# Altium footprint library RT_PC104-M7.PcbLib: 37 footprints (part 2 of 3)
Each footprint in its own frame and in the unit in brackets; x right, y up, seen from the top. Pads: shape width x height; smd on the part's side, far side on the other; paste and mask are expansions set on the pad; w line width, h text height; cw(c..) or ccw(c..) is an arc to the next point about the centre after c.
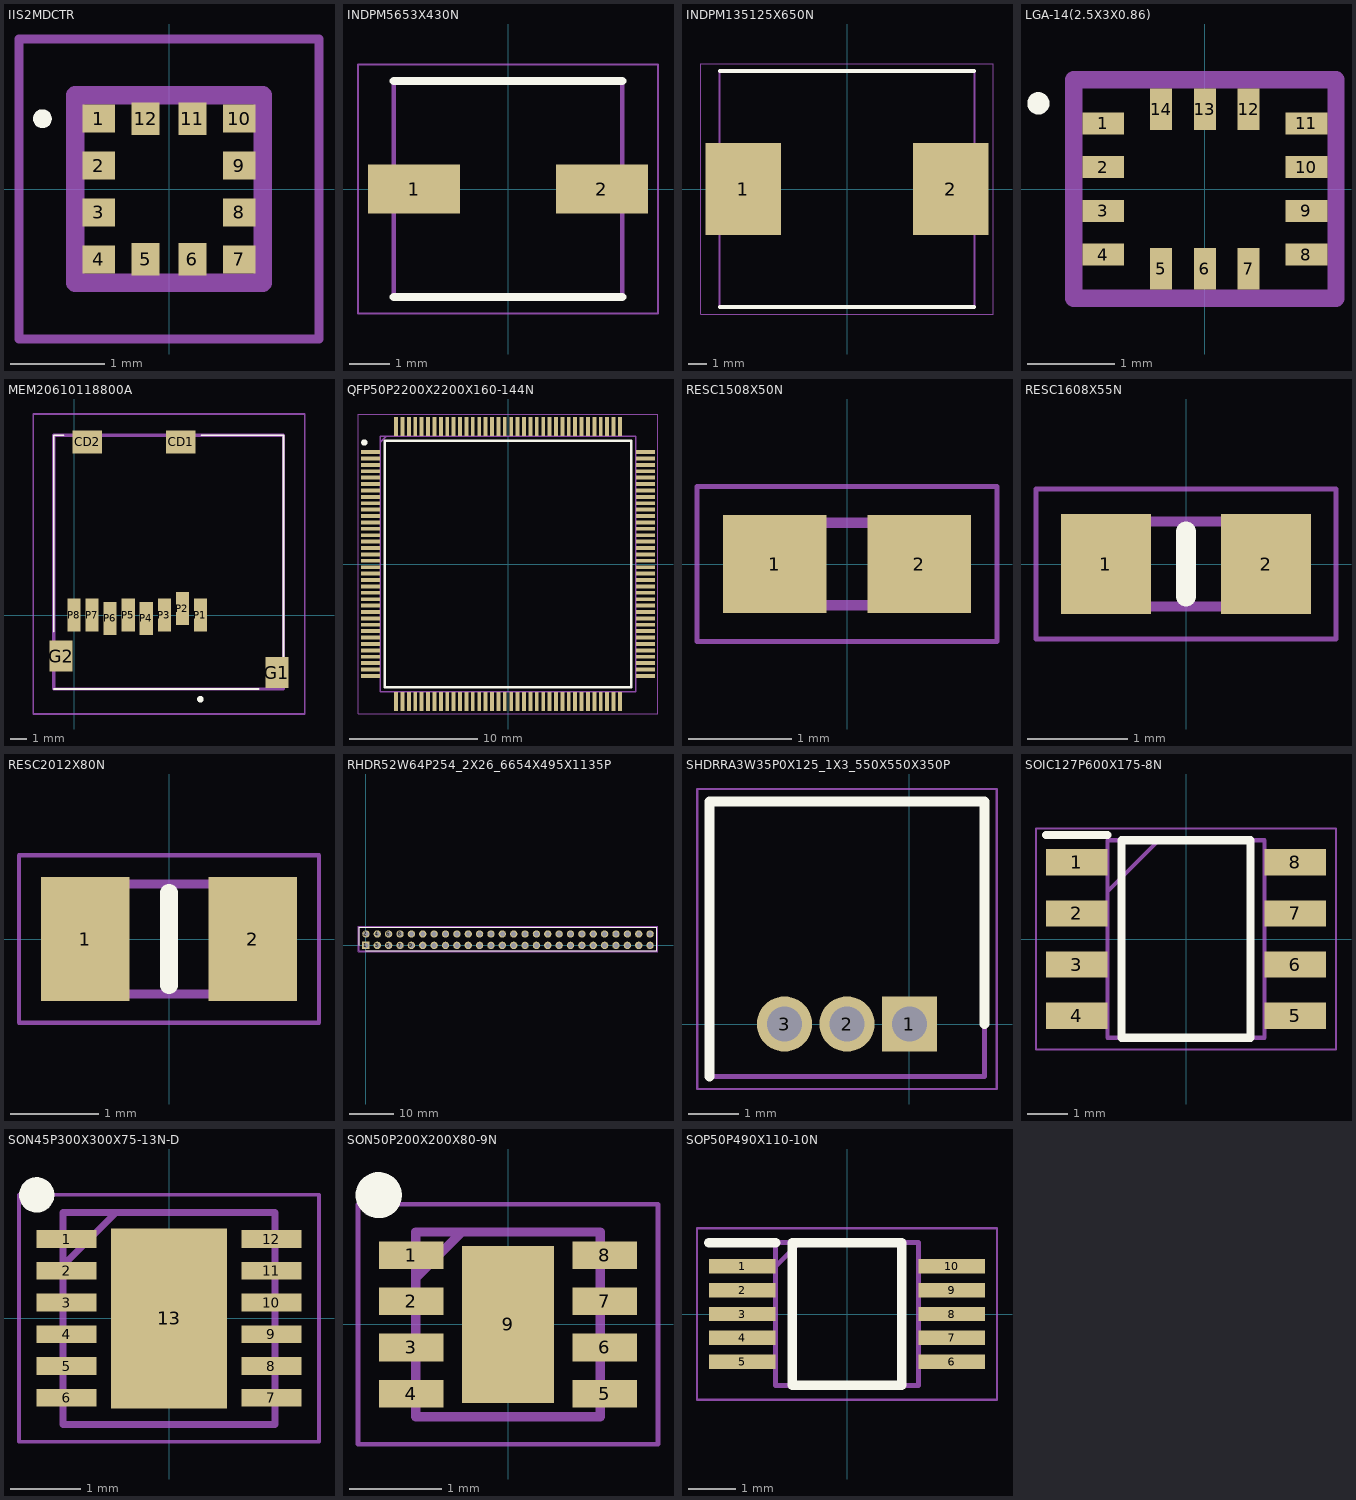
[diagram p1: the footprints below, top view; thin cyan lines are the x and y axes]

## IIS2MDCTR [mm]
pads (12):
  rect 0.35x0.3 smd: 1(-0.75,0.75) 2(-0.75,0.25) 3(-0.75,-0.25) 4(-0.75,-0.75) 7(0.75,-0.75) 8(0.75,-0.25) 9(0.75,0.25) 10(0.75,0.75)
  rect 0.3x0.35 smd: 5(-0.25,-0.75) 6(0.25,-0.75) 11(0.25,0.75) 12(-0.25,0.75)
Top Overlay:
  lines w0.1: -1.4,0.75 ccw(c-1.35,0.75) -1.3,0.75 ccw(c-1.35,0.75) -1.4,0.75
Mechanical 13:
  lines w0.2: -1,-1 -1,1 1,1 1,-1 -1,-1
Mechanical 15:
  lines w0.1: -1.6,-1.6 -1.6,1.6 1.6,1.6 1.6,-1.6 -1.6,-1.6
3D body "ISM303DACTR.stp": height 0.7, standoff 0, extent -1,-1 1,1

## INDPM5653X430N [mm]
pads (2):
  rect 2.25x1.2 smd: 1(-2.3,0) 2(2.3,0)
Top Overlay:
  lines w0.2: -2.8,-2.65 2.8,-2.65 ; -2.8,2.65 2.8,2.65
Mechanical 13:
  lines w0.1: -2.8,-2.65 -2.8,2.65 2.8,2.65 2.8,-2.65 -2.8,-2.65
Mechanical 15:
  lines w0.05: -3.675,-3.05 -3.675,3.05 3.675,3.05 3.675,-3.05 -3.675,-3.05
3D body "744316330.stp": height 4.3, standoff 0, extent -2.8,-2.65 2.8,2.65

## INDPM135125X650N [mm]
pads (2):
  rect 4x4.9 smd: 1(-5.5,0) 2(5.5,0)
Top Overlay:
  lines w0.2: -6.75,-6.25 6.75,-6.25 ; -6.75,6.25 6.75,6.25
Mechanical 13:
  lines w0.1: -6.75,-6.25 -6.75,6.25 6.75,6.25 6.75,-6.25 -6.75,-6.25
Mechanical 15:
  lines w0.05: -7.75,-6.65 -7.75,6.65 7.75,6.65 7.75,-6.65 -7.75,-6.65
3D body "SRP1265A-3R3M.stp": height 6.5, standoff 0, extent -6.75,-6.25 6.75,6.25

## LGA-14(2.5X3X0.86) [mm]
pads (14):
  rect 0.475x0.25 smd: 1(-1.162,0.75) 2(-1.162,0.25) 3(-1.162,-0.25) 4(-1.162,-0.75) 8(1.162,-0.75) 9(1.162,-0.25) 10(1.162,0.25) 11(1.162,0.75)
  rect 0.25x0.475 smd: 5(-0.5,-0.913) 6(0,-0.913) 7(0.5,-0.913) 12(0.5,0.913) 13(0,0.913) 14(-0.5,0.913)
Top Overlay:
  circle w0.2: c-1.905,0.98 r0.027
Mechanical 13:
  lines w0.2: -1.5,-1.25 -1.5,1.25 1.5,1.25 1.5,-1.25 -1.5,-1.25
3D body "ASM330LHHTR.stp": height 0.86, standoff 0, extent -1.5,-1.25 1.5,1.25

## MEM20610118800A [mm]
pads (12):
  rect 1.8x1.4 smd: CD1(6.51,10.55) CD2(0.81,10.55)
  rect 1.4x1.9 smd: G1(12.36,-3.5) G2(-0.79,-2.5)
  rect 0.8x2 smd: P1(7.7,0) P2(6.6,0.4) P3(5.5,0) P4(4.4,-0.2) P5(3.3,0) P6(2.2,-0.2) P7(1.1,0) P8(0,0)
Top Overlay:
  lines w0.1: -1.24,-4.5 11.26,-4.5 ; -1.24,-1.025 -1.24,10.95 -0.64,10.95 ; 7.76,10.95 12.76,10.95 12.76,-2.825
  lines w0.2: 7.7,-5.225 cw(c7.7,-5.125) 7.7,-5.025 cw(c7.7,-5.125) 7.7,-5.225
Mechanical 13:
  lines w0.2: -1.24,-4.5 -1.24,10.95 12.76,10.95 12.76,-4.5 -1.24,-4.5
Mechanical 15:
  lines w0.1: -2.49,-6.025 -2.49,12.25 14.06,12.25 14.06,-6.025 -2.49,-6.025
3D body "MEM2061-01-188-00-A.stp": height 1.95, standoff 0, extent -1.32,-4.61 12.88,10.84

## PCBComponent_1 [mm]

## QFP50P2200X2200X160-144N [mm]
pads (144):
  rect 1.475x0.3 smd: 1(-10.738,8.75) 2(-10.738,8.25) 3(-10.738,7.75) 4(-10.738,7.25) 5(-10.738,6.75) 6(-10.738,6.25) 7(-10.738,5.75) 8(-10.738,5.25) 9(-10.738,4.75) 10(-10.738,4.25) 11(-10.738,3.75) 12(-10.738,3.25) 13(-10.738,2.75) 14(-10.738,2.25) 15(-10.738,1.75) 16(-10.738,1.25) 17(-10.738,0.75) 18(-10.738,0.25) 19(-10.738,-0.25) 20(-10.738,-0.75) 21(-10.738,-1.25) 22(-10.738,-1.75) 23(-10.738,-2.25) 24(-10.738,-2.75) 25(-10.738,-3.25) 26(-10.738,-3.75) 27(-10.738,-4.25) 28(-10.738,-4.75) 29(-10.738,-5.25) 30(-10.738,-5.75) 31(-10.738,-6.25) 32(-10.738,-6.75) 33(-10.738,-7.25) 34(-10.738,-7.75) 35(-10.738,-8.25) 36(-10.738,-8.75) 73(10.738,-8.75) 74(10.738,-8.25) 75(10.738,-7.75) 76(10.738,-7.25) 77(10.738,-6.75) 78(10.738,-6.25) 79(10.738,-5.75) 80(10.738,-5.25) 81(10.738,-4.75) 82(10.738,-4.25) 83(10.738,-3.75) 84(10.738,-3.25) 85(10.738,-2.75) 86(10.738,-2.25) 87(10.738,-1.75) 88(10.738,-1.25) 89(10.738,-0.75) 90(10.738,-0.25) 91(10.738,0.25) 92(10.738,0.75) 93(10.738,1.25) 94(10.738,1.75) 95(10.738,2.25) 96(10.738,2.75) 97(10.738,3.25) 98(10.738,3.75) 99(10.738,4.25) 100(10.738,4.75) 101(10.738,5.25) 102(10.738,5.75) 103(10.738,6.25) 104(10.738,6.75) 105(10.738,7.25) 106(10.738,7.75) 107(10.738,8.25) 108(10.738,8.75)
  rect 0.3x1.475 smd: 37(-8.75,-10.738) 38(-8.25,-10.738) 39(-7.75,-10.738) 40(-7.25,-10.738) 41(-6.75,-10.738) 42(-6.25,-10.738) 43(-5.75,-10.738) 44(-5.25,-10.738) 45(-4.75,-10.738) 46(-4.25,-10.738) 47(-3.75,-10.738) 48(-3.25,-10.738) 49(-2.75,-10.738) 50(-2.25,-10.738) 51(-1.75,-10.738) 52(-1.25,-10.738) 53(-0.75,-10.738) 54(-0.25,-10.738) 55(0.25,-10.738) 56(0.75,-10.738) 57(1.25,-10.738) 58(1.75,-10.738) 59(2.25,-10.738) 60(2.75,-10.738) 61(3.25,-10.738) 62(3.75,-10.738) 63(4.25,-10.738) 64(4.75,-10.738) 65(5.25,-10.738) 66(5.75,-10.738) 67(6.25,-10.738) 68(6.75,-10.738) 69(7.25,-10.738) 70(7.75,-10.738) 71(8.25,-10.738) 72(8.75,-10.738) 109(8.75,10.738) 110(8.25,10.738) 111(7.75,10.738) 112(7.25,10.738) 113(6.75,10.738) 114(6.25,10.738) 115(5.75,10.738) 116(5.25,10.738) 117(4.75,10.738) 118(4.25,10.738) 119(3.75,10.738) 120(3.25,10.738) 121(2.75,10.738) 122(2.25,10.738) 123(1.75,10.738) 124(1.25,10.738) 125(0.75,10.738) 126(0.25,10.738) 127(-0.25,10.738) 128(-0.75,10.738) 129(-1.25,10.738) 130(-1.75,10.738) 131(-2.25,10.738) 132(-2.75,10.738) 133(-3.25,10.738) 134(-3.75,10.738) 135(-4.25,10.738) 136(-4.75,10.738) 137(-5.25,10.738) 138(-5.75,10.738) 139(-6.25,10.738) 140(-6.75,10.738) 141(-7.25,10.738) 142(-7.75,10.738) 143(-8.25,10.738) 144(-8.75,10.738)
Top Overlay:
  circle w0.25: c-11.225,9.5 r0.125
  lines w0.2: -9.65,-9.65 -9.65,9.65 9.65,9.65 9.65,-9.65 -9.65,-9.65
Mechanical 13:
  lines w0.1: -10,9.5 -9.5,10 ; -10,-10 -10,10 10,10 10,-10 -10,-10
Mechanical 15:
  lines w0.05: -11.725,-11.725 -11.725,11.725 11.725,11.725 11.725,-11.725 -11.725,-11.725
3D body "STM32H753ZIT6.stp": height 1.6, standoff 0, extent -11,-11 11,11

## RESC1508X50N [mm]
pads (2):
  rect 1x0.95 smd: 1(-0.7,0) 2(0.7,0)
Mechanical 13:
  lines w0.1: -0.75,-0.4 -0.75,0.4 0.75,0.4 0.75,-0.4 -0.75,-0.4
Mechanical 15:
  lines w0.05: -1.45,-0.75 -1.45,0.75 1.45,0.75 1.45,-0.75 -1.45,-0.75
3D body "RNCP0603FTD10K0.stp": height 0.4, standoff 0, extent -0.754,-0.396 0.746,0.404

## RESC1608X55N [mm]
pads (2):
  rect 0.9x1 smd: 1(-0.8,0) 2(0.8,0)
Top Overlay:
  lines w0.2: 0,-0.325 0,0.325
Mechanical 13:
  lines w0.1: -0.8,-0.425 -0.8,0.425 0.8,0.425 0.8,-0.425 -0.8,-0.425
Mechanical 15:
  lines w0.05: -1.5,-0.75 -1.5,0.75 1.5,0.75 1.5,-0.75 -1.5,-0.75
3D body "ERJ-3EKF2002V.stp": height 0.45, standoff 0, extent -0.8,-0.4 0.8,0.4

## RESC2012X80N [mm]
pads (2):
  rect 1x1.4 smd: 1(-0.95,0) 2(0.95,0)
Top Overlay:
  lines w0.2: 0,-0.525 0,0.525
Mechanical 13:
  lines w0.1: -1,-0.625 -1,0.625 1,0.625 1,-0.625 -1,-0.625
Mechanical 15:
  lines w0.05: -1.7,-0.95 -1.7,0.95 1.7,0.95 1.7,-0.95 -1.7,-0.95
3D body "CRF0805-FZ-R001ELF.stp": height 0.8, standoff 0, extent -1,-0.625 1,0.625

## RHDR52W64P254_2X26_6654X495X1135P [mm]
pads (52):
  rect 1.65x1.65 hole 1.1: 1(0,0)
  round 1.65 hole 1.1: 2(0,2.54) 3(2.54,0) 4(2.54,2.54) 5(5.08,0) 6(5.08,2.54) 7(7.62,0) 8(7.62,2.54) 9(10.16,0) 10(10.16,2.54) 11(12.7,0) 12(12.7,2.54) 13(15.24,0) 14(15.24,2.54) 15(17.78,0) 16(17.78,2.54) 17(20.32,0) 18(20.32,2.54) 19(22.86,0) 20(22.86,2.54) 21(25.4,0) 22(25.4,2.54) 23(27.94,0) 24(27.94,2.54) 25(30.48,0) 26(30.48,2.54) 27(33.02,0) 28(33.02,2.54) 29(35.56,0) 30(35.56,2.54) 31(38.1,0) 32(38.1,2.54) 33(40.64,0) 34(40.64,2.54) 35(43.18,0) 36(43.18,2.54) 37(45.72,0) 38(45.72,2.54) 39(48.26,0) 40(48.26,2.54) 41(50.8,0) 42(50.8,2.54) 43(53.34,0) 44(53.34,2.54) 45(55.88,0) 46(55.88,2.54) 47(58.42,0) 48(58.42,2.54) 49(60.96,0) 50(60.96,2.54) 51(63.5,0) 52(63.5,2.54)
Top Overlay:
  lines w0.2: -1.52,0 -1.52,4.045 65.02,4.045 65.02,-1.205 0,-1.205
Mechanical 13:
  lines w0.1: -1.52,-1.205 65.02,-1.205 65.02,4.045 -1.52,4.045 -1.52,-1.205
Mechanical 15:
  lines w0.05: -1.77,-1.455 65.27,-1.455 65.27,4.295 -1.77,4.295 -1.77,-1.455
3D body "ESQ-126-39-G-D-001.stp": height 11.35, standoff -12.2, extent -1.52,-1.205 65.02,3.745

## SHDRRA3W35P0X125_1X3_550X550X350P [mm]
pads (3):
  rect 1.1x1.1 hole 0.7: 1(0,0)
  round 1.1 hole 0.7: 2(-1.25,0) 3(-2.5,0)
Top Overlay:
  lines w0.2: -4,-1.05 -4,4.45 1.5,4.45 1.5,0
Mechanical 13:
  lines w0.1: -4,-1.05 -4,4.45 1.5,4.45 1.5,-1.05 -4,-1.05
Mechanical 15:
  lines w0.05: -4.25,-1.3 -4.25,4.7 1.75,4.7 1.75,-1.3 -4.25,-1.3
3D body "53048-0310.stp": height 3.32, standoff -2.48, extent -4,-1.055 1.5,4.445

## SOIC127P600X175-8N [mm]
pads (8):
  rect 1.528x0.65 smd: 1(-2.711,1.905) 2(-2.711,0.635) 3(-2.711,-0.635) 4(-2.711,-1.905) 5(2.711,-1.905) 6(2.711,-0.635) 7(2.711,0.635) 8(2.711,1.905)
Top Overlay:
  lines w0.2: -3.475,2.58 -1.948,2.58 ; -1.598,-2.452 -1.598,2.452 1.598,2.452 1.598,-2.452 -1.598,-2.452
Mechanical 13:
  lines w0.1: -1.948,1.182 -0.678,2.452 ; -1.948,-2.452 -1.948,2.452 1.948,2.452 1.948,-2.452 -1.948,-2.452
Mechanical 15:
  lines w0.05: -3.725,-2.75 -3.725,2.75 3.725,2.75 3.725,-2.75 -3.725,-2.75
3D body "TCAN337GDR.stp": height 1.63, standoff 0, extent -3.011,-2.451 3.011,2.451

## SON45P300X300X75-13N-D [mm]
pads (13):
  rect 0.85x0.25 smd: 1(-1.45,1.125) 2(-1.45,0.675) 3(-1.45,0.225) 4(-1.45,-0.225) 5(-1.45,-0.675) 6(-1.45,-1.125) 7(1.45,-1.125) 8(1.45,-0.675) 9(1.45,-0.225) 10(1.45,0.225) 11(1.45,0.675) 12(1.45,1.125)
  rect 1.65x2.55 smd: 13(0,0)
Top Overlay:
  circle w0.25: c-1.875,1.75 r0.125
Mechanical 13:
  lines w0.1: -1.5,0.75 -0.75,1.5 ; -1.5,-1.5 -1.5,1.5 1.5,1.5 1.5,-1.5 -1.5,-1.5
Mechanical 15:
  lines w0.05: -2.125,-1.75 -2.125,1.75 2.125,1.75 2.125,-1.75 -2.125,-1.75
3D body "FT234XD-R.stp": height 0.75, standoff 0, extent -1.55,-1.5 1.55,1.5

## SON50P200X200X80-9N [mm]
pads (9):
  rect 0.7x0.3 smd: 1(-1.05,0.75) 2(-1.05,0.25) 3(-1.05,-0.25) 4(-1.05,-0.75) 5(1.05,-0.75) 6(1.05,-0.25) 7(1.05,0.25) 8(1.05,0.75)
  rect 1x1.7 smd: 9(0,0)
Top Overlay:
  circle w0.25: c-1.4,1.4 r0.125
Mechanical 13:
  lines w0.1: -1,0.5 -0.5,1 ; -1,-1 -1,1 1,1 1,-1 -1,-1
Mechanical 15:
  lines w0.05: -1.625,-1.3 -1.625,1.3 1.625,1.3 1.625,-1.3 -1.625,-1.3
3D body "TPS22975DSGR.stp": height 0.77, standoff 0, extent -1,-1 1,1

## SOP50P490X110-10N [mm]
pads (10):
  rect 1.4x0.3 smd: 1(-2.2,1) 2(-2.2,0.5) 3(-2.2,0) 4(-2.2,-0.5) 5(-2.2,-1) 6(2.2,-1) 7(2.2,-0.5) 8(2.2,0) 9(2.2,0.5) 10(2.2,1)
Top Overlay:
  lines w0.2: -2.9,1.5 -1.5,1.5 ; -1.15,-1.5 -1.15,1.5 1.15,1.5 1.15,-1.5 -1.15,-1.5
Mechanical 13:
  lines w0.1: -1.5,1 -1,1.5 ; -1.5,-1.5 -1.5,1.5 1.5,1.5 1.5,-1.5 -1.5,-1.5
Mechanical 15:
  lines w0.05: -3.15,-1.8 -3.15,1.8 3.15,1.8 3.15,-1.8 -3.15,-1.8
3D body "INA237AQDGSRQ1.stp": height 1.1, standoff 0, extent -2.463,-1.5 2.463,1.5